# Altium footprint library PL04_22F.PcbLib: 63 footprints (part 4 of 4)
Each footprint in its own frame and in the unit in brackets; x right, y up, seen from the top. Pads: shape width x height; smd on the part's side, far side on the other; paste and mask are expansions set on the pad; w line width, h text height; cw(c..) or ccw(c..) is an arc to the next point about the centre after c.
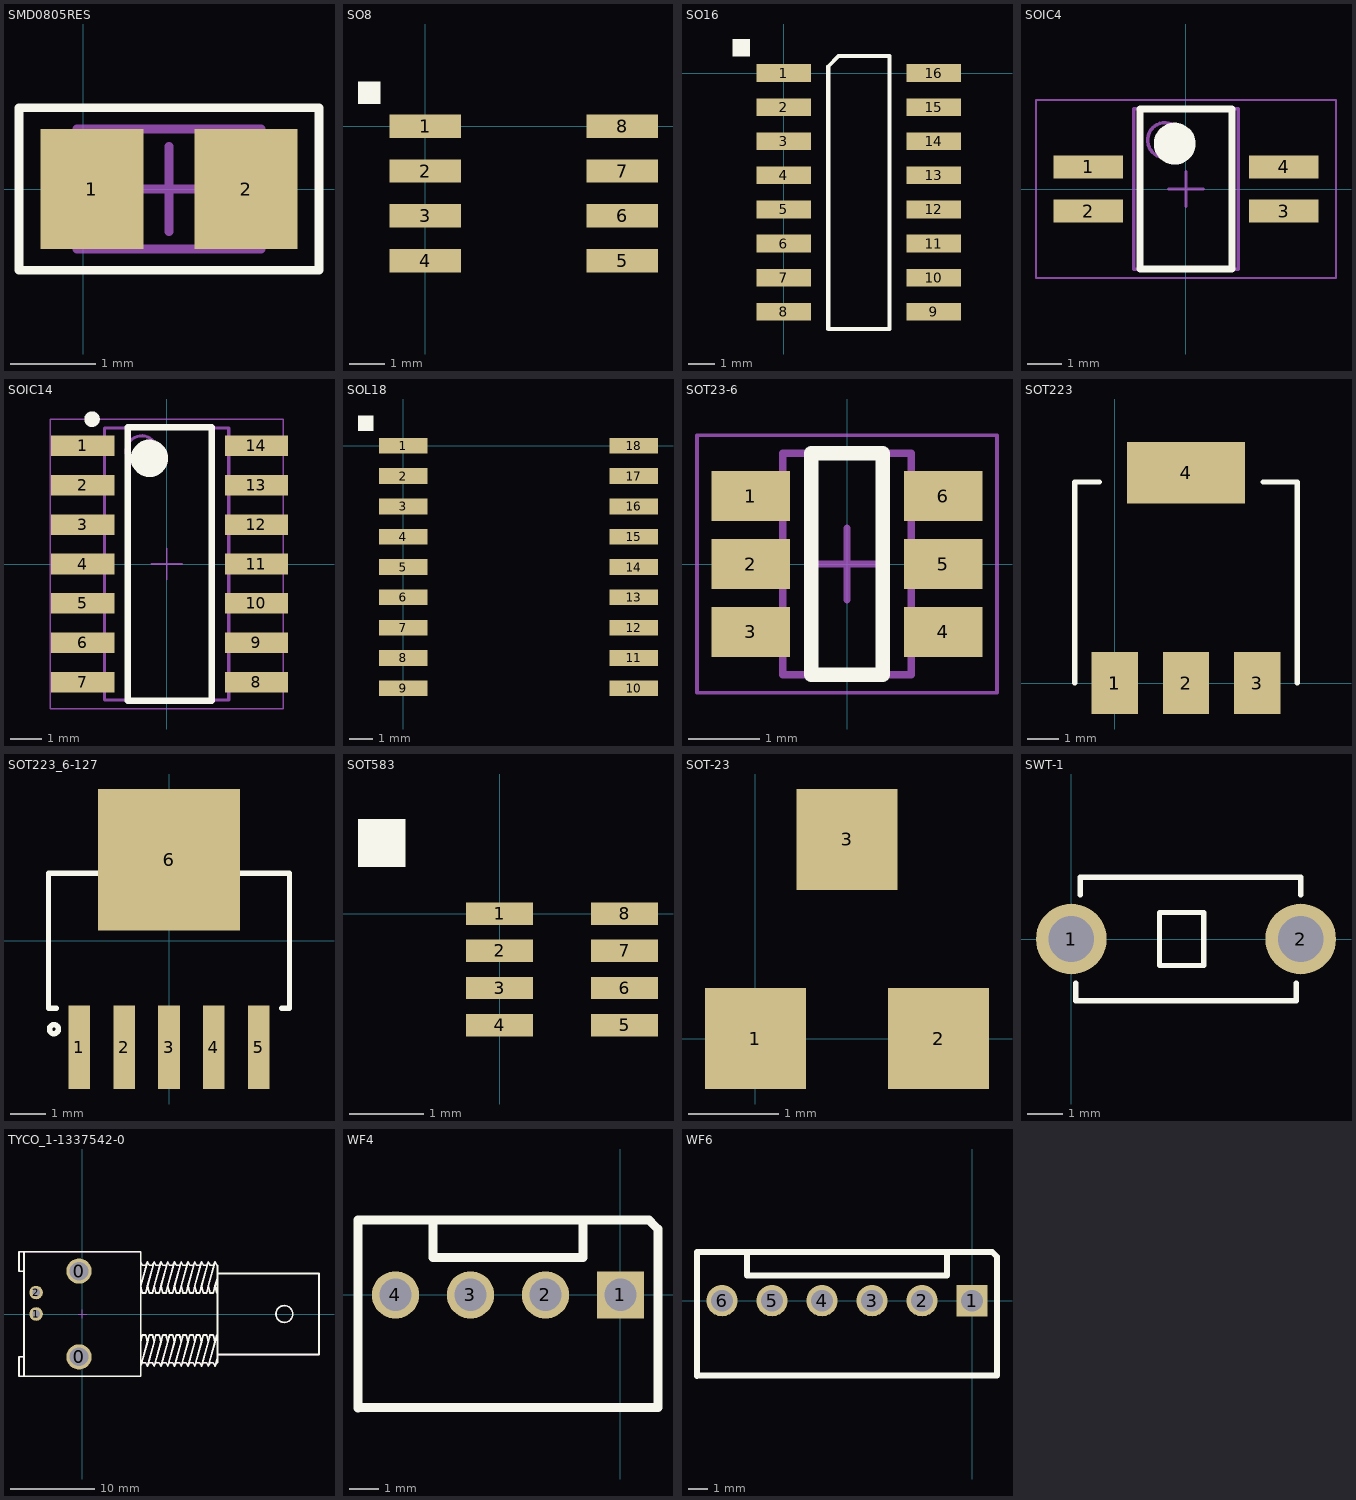
[diagram p3: the footprints below, top view; thin cyan lines are the x and y axes]

## SMD0805RES [mm] "Чипрезистор, 2.0x1.3mm"
height 0.65
pads (2):
  rect 1.2x1.4 smd: 1(0.102,0.002) 2(1.902,0.002)
Top Overlay:
  lines w0.1: -0.748,-0.948 2.752,-0.948 2.752,0.952 -0.748,0.952 -0.748,-0.948
Mechanical 13:
  lines w0.1: -0.073,-0.698 -0.073,0.702 2.077,0.702 2.077,-0.698 -0.073,-0.698
Mechanical 15:
  lines w0.1: 0.502,0.002 1.502,0.002 ; 1.002,-0.498 1.002,0.502
3D body "RES0805.STEP": height 0.51, standoff 0, extent 0,-0.627 2.004,0.627

## SO8 [mil] "SOIC 8, Pitch 1.27mm - Body 4x5mm, IPC Medium Density"
pads (8):
  rect 80x26 smd: 1(0,0) 2(0,-50) 3(0,-100) 4(0,-150) 5(220,-150) 6(220,-100) 7(220,-50) 8(220,0)
Top Overlay:
  region: -75,25 -50,25 -50,50 -75,50
3D body "SOIC127P600X175-8N.stp": height 68.9, standoff 0, extent -15.74,-173.42 228.36,23.43

## SO16 [mil] "SOIC 16, Pitch 1.27mm - Body 4x10mm, IPC Medium Density"
height 68.9
pads (16):
  rect 80x26 smd: 1(0,0) 2(0,-50) 3(0,-100) 4(0,-150) 5(0,-200) 6(0,-250) 7(0,-300) 8(0,-350) 9(220,-350) 10(220,-300) 11(220,-250) 12(220,-200) 13(220,-150) 14(220,-100) 15(220,-50) 16(220,0)
Top Overlay:
  region: -75,25 -50,25 -50,50 -75,50
  lines w5.91: 65,-375 65,10 80,25 155,25 155,-375 65,-375
3D body "SOIC127P600X175-16N.stp": height 68.9, standoff 0, extent -15.75,-371.85 228.35,21.85

## SOIC4 [mm]
height 2.1
pads (4):
  rect 2x0.66 smd: 1(-2.8,0.635) 2(-2.8,-0.635) 3(2.8,-0.635) 4(2.8,0.635)
Top Overlay:
  circle w0.6: c-0.325,1.3 r0.3
  lines w0.2: -1.325,-2.3 -1.325,2.3 1.325,2.3 1.325,-2.3 -1.325,-2.3
Mechanical 13:
  circle w0.1: c-0.6,1.4 r0.5
  lines w0.1: -1.5,-2.3 -1.5,2.3 1.5,2.3 1.5,-2.3 -1.5,-2.3
Mechanical 15:
  lines w0.05: -4.3,-2.55 -4.3,2.55 4.3,2.55 4.3,-2.55 -4.3,-2.55
  lines w0.1: -0.5,0 0.5,0 ; 0,-0.5 0,0.5
3D body: height 2.1, standoff 0.2, extent -1.5,-2.3 1.5,2.3

## SOIC14 [mil] "SOIC 14, Pitch 1.27mm - Body 4x8.75mm, IPC Medium Density"
height 68.9
pads (14):
  rect 80x26 smd: 1(-106.3,150) 2(-106.3,100) 3(-106.3,50) 4(-106.3,0) 5(-106.3,-50) 6(-106.3,-100) 7(-106.3,-150) 8(113.7,-150) 9(113.7,-100) 10(113.7,-50) 11(113.7,0) 12(113.7,50) 13(113.7,100) 14(113.7,150)
Top Overlay:
  circle w23.62: c-21.65,133.86 r11.81
  circle w9.84: c-94.49,183.46 r4.92
  lines w7.87: -49.21,-173.23 -49.21,173.23 56.1,173.23 ; -48.23,-173.23 57.09,-173.23 57.09,173.23
Mechanical 14:
  circle w3.94: c-31.5,142.72 r19.68
  lines w3.94: -78.74,-172.05 78.74,-172.05 78.74,172.05 -78.74,172.05 -78.74,-172.05
Mechanical 15:
  lines w1.97: -19.69,0 19.68,0 ; 0,-19.68 0,19.68 ; -147.64,-183.07 147.64,-183.07 147.64,183.07 -147.64,183.07 -147.64,-183.07
3D body "SOIC127P600X175-14N.stp": height 68.9, standoff 0, extent -118.58,-172.24 125.51,172.25

## SOL18 [mil]
pads (18):
  rect 80x26 smd: 1(0,0) 2(0,-50) 3(0,-100) 4(0,-150) 5(0,-200) 6(0,-250) 7(0,-300) 8(0,-350) 9(0,-400) 10(380,-400) 11(380,-350) 12(380,-300) 13(380,-250) 14(380,-200) 15(380,-150) 16(380,-100) 17(380,-50) 18(380,0)
Top Overlay:
  region: -75,25 -50,25 -50,50 -75,50
3D body "SOIC127P1030X265-18N.stp": height 66.14, standoff 0, extent -18.89,-431.29 388.98,31.31

## SOT23-6 [mm] "SOT23, 6-Leads, Body 2,90x2,75mm, Pitch 0,95mm, IPC Medium Density"
height 1.2
pads (6):
  rect 1.1x0.7 smd: 1(-1.35,0.95) 2(-1.35,0) 3(-1.35,-0.95) 4(1.35,-0.95) 5(1.35,0) 6(1.35,0.95)
Top Overlay:
  lines w0.2: -0.5,-1.55 0.5,-1.55 0.5,1.55 -0.5,1.55 -0.5,-1.55
Mechanical 13:
  lines w0.1: -0.9,-1.55 -0.9,1.55 0.9,1.55 0.9,-1.55 -0.9,-1.55
Mechanical 15:
  lines w0.05: -2.1,-1.8 -2.1,1.8 2.1,1.8 2.1,-1.8 -2.1,-1.8
  lines w0.1: -0.5,0 0.5,0 ; 0,-0.5 0,0.5
3D body "SOT95P280X100-6N.stp": height 1, standoff 0, extent -1.4,-1.5 1.4,1.5

## SOT223 [mm] "SOT223, 2.30mm pitch; 3 pin, 3.70mm W X 6.70mm L, IPC Medium Density"
height 1.75
pads (5):
  rect 1.5x2 smd: 1(0,0) 2(2.3,0) 3(4.6,0)
  rect 1x2 smd: 1(0,0)
  rect 3.8x2 smd: 4(2.3,6.8)
Top Overlay:
  lines w0.173: -1.3,0 -1.3,6.5 -0.5,6.5 ; 4.8,6.5 5.9,6.5 5.9,0
3D body "SOT230P700X175-4N.stp": height 1.75, standoff 0, extent -1.05,-0.649 5.65,6.649

## SOT223_6-127 [mil] "1.27mm pitch 20pin = DCQ6-M(ti)"
pads (6):
  rect 24x93 smd paste+0 mask+0: 1(-100,-118.5) 2(-50,-118.5) 3(0,-118.5) 4(50,-118.5) 5(100,-118.5)
  rect 157.48x157.48 smd: 6(0,90)
Top Overlay:
  circle w6: c-127.95,-98.43 r5
  lines w6: -125.1,-75 -134,-75 -134,75 -75.1,75 ; 75.1,75 134,75 134,-75 125.1,-75
Top Paste:
  region: 62,72 62,165 -62,165 -62,72
Mechanical 13:
  lines w1: -110,-143 -90,-143 ; -60,-143 -40,-143 ; -10,-143 10,-143 ; 40,-143 60,-143 ; 90,-143 110,-143
3D body: height 10, standoff 0, extent 0,0 10,10
3D body "DCQ6_TEX-M.step": height 71.1, standoff 0, extent -129.01,-142.99 129.02,143

## SOT583 [mm] "SOT583, Pitch 0.5mm - Body 1.6x2.1mm"
height 0.5
pads (8):
  rect 0.9x0.3 smd: 1(0,0) 2(0,-0.5) 3(0,-1) 4(0,-1.5) 5(1.68,-1.5) 6(1.68,-1) 7(1.68,-0.5) 8(1.68,0)
Top Overlay:
  region: -1.905,0.635 -1.27,0.635 -1.27,1.27 -1.905,1.27
3D body "SOT_33DRLR_TEX.step": height 0.61, standoff 0, extent -0.001,-1.855 1.701,0.355

## SOT-23 [mil]
pads (3):
  rect 44x44 smd: 1(0,0) 2(80,0) 3(40,87)
3D body "SOT95P240X110-3N.stp": height 43.31, standoff 0.08, extent -21.66,-3.94 96.46,94.49

## SWT-1 [mm]
height 9.2
pads (2):
  round 2 hole 1.3: 1(0,0) 2(6.5,0)
Top Overlay:
  lines w0.15: 0.125,-1.25 0.125,-1.75 6.375,-1.75 6.375,-1.25 ; 0.25,1.25 0.25,1.75 6.5,1.75 6.5,1.25 ; 2.5,-0.75 3.75,-0.75 3.75,0.75 2.5,0.75 2.5,-0.75

## TYCO_1-1337542-0 [mm] "50 Ohms  BNC Elbow PCB Socket With Mounting Posts"
height 13.16
pads (4):
  round 3 hole 2.2: 0(-0.4,-5.08) 0(-0.4,5.08)
  round 1.6 hole 0.9: 1(-5.48,0) 2(-5.48,2.54)
Top Overlay:
  drawing of 177 lines, arcs and shapes, not listed
Mechanical 8:
  lines w0.1: -5.98,0 -5.48,0 ; -5.98,2.54 -5.48,2.54 ; -5.48,-0.5 -5.48,0 ; -5.48,0.5 -5.48,0 ; -5.48,2.04 -5.48,2.54 ; -5.48,3.04 -5.48,2.54 ; -4.98,0 -5.48,0 ; -4.98,2.54 -5.48,2.54 ; -0.9,-5.08 -0.4,-5.08 ; -0.9,5.08 -0.4,5.08 ; -0.5,0 0,0 ; -0.4,-5.58 -0.4,-5.08 ; -0.4,-4.58 -0.4,-5.08 ; -0.4,4.58 -0.4,5.08 ; -0.4,5.58 -0.4,5.08 ; 0,-0.5 0,0 ; 0,0.5 0,0 ; 0.1,-5.08 -0.4,-5.08 ; 0.1,5.08 -0.4,5.08 ; 0.5,0 0,0
Mechanical 14:
  drawing of 177 lines, arcs and shapes, not listed
3D body "TYCO_1-1337542-0.stp": height 13.16, standoff -4.3, extent -7.5,-7.35 28,7.35

## WF4 [mm]
height 5
pads (4):
  rect 1.6x1.6 hole 1.1 unplated: 1(0,0)
  round 1.6 hole 1.1: 2(-2.54,0) 3(-5.08,0) 4(-7.62,0)
Top Overlay:
  lines w0.173: 1.27,-1.27 1.27,1.27
  lines w0.3: -8.89,-3.83 -8.89,0 -8.89,2.47 ; -8.89,-3.81 1.27,-3.81 1.27,-3.63 1.27,0 1.27,2.23 1.03,2.47 ; -8.89,2.54 0.96,2.54 ; -6.35,2.47 -6.35,1.27 -3.81,1.27 -1.27,1.27 -1.27,2.47
3D body "SAMTEC_MTLW-103-07-L-S-250.stp": height 7.87, standoff -3.05, extent -6.35,-1.22 1.27,1.269

## WF6 [mm]
height 5
pads (6):
  rect 1.6x1.6 hole 1.1 unplated: 1(0,0)
  round 1.6 hole 1.1: 2(-2.54,0) 3(-5.08,0) 5(-10.16,0) 6(-12.7,0)
  round 1.6 hole 1.1 unplated: 4(-7.62,0)
Top Overlay:
  lines w0.173: 1.27,-1.27 1.27,1.27
  lines w0.3: -13.97,-3.83 -13.97,0 -13.97,2.47 1.03,2.47 1.27,2.23 1.27,0 1.27,-3.63 1.27,-3.81 -13.95,-3.81 ; -11.43,2.47 -11.43,1.27 -6.35,1.27 -1.27,1.27 -1.27,2.47
3D body "SAMTEC_MTLW-103-07-L-S-250.stp": height 7.87, standoff -3.05, extent -13.97,-1.22 -6.35,1.269
3D body "SAMTEC_MTLW-103-07-L-S-250.stp": height 7.87, standoff -3.05, extent -6.35,-1.22 1.27,1.269